# Altium footprint library Components.PcbLib: 13 footprints
Each footprint in its own frame and in the unit in brackets; x right, y up, seen from the top. Pads: shape width x height; smd on the part's side, far side on the other; paste and mask are expansions set on the pad; w line width, h text height; cw(c..) or ccw(c..) is an arc to the next point about the centre after c.
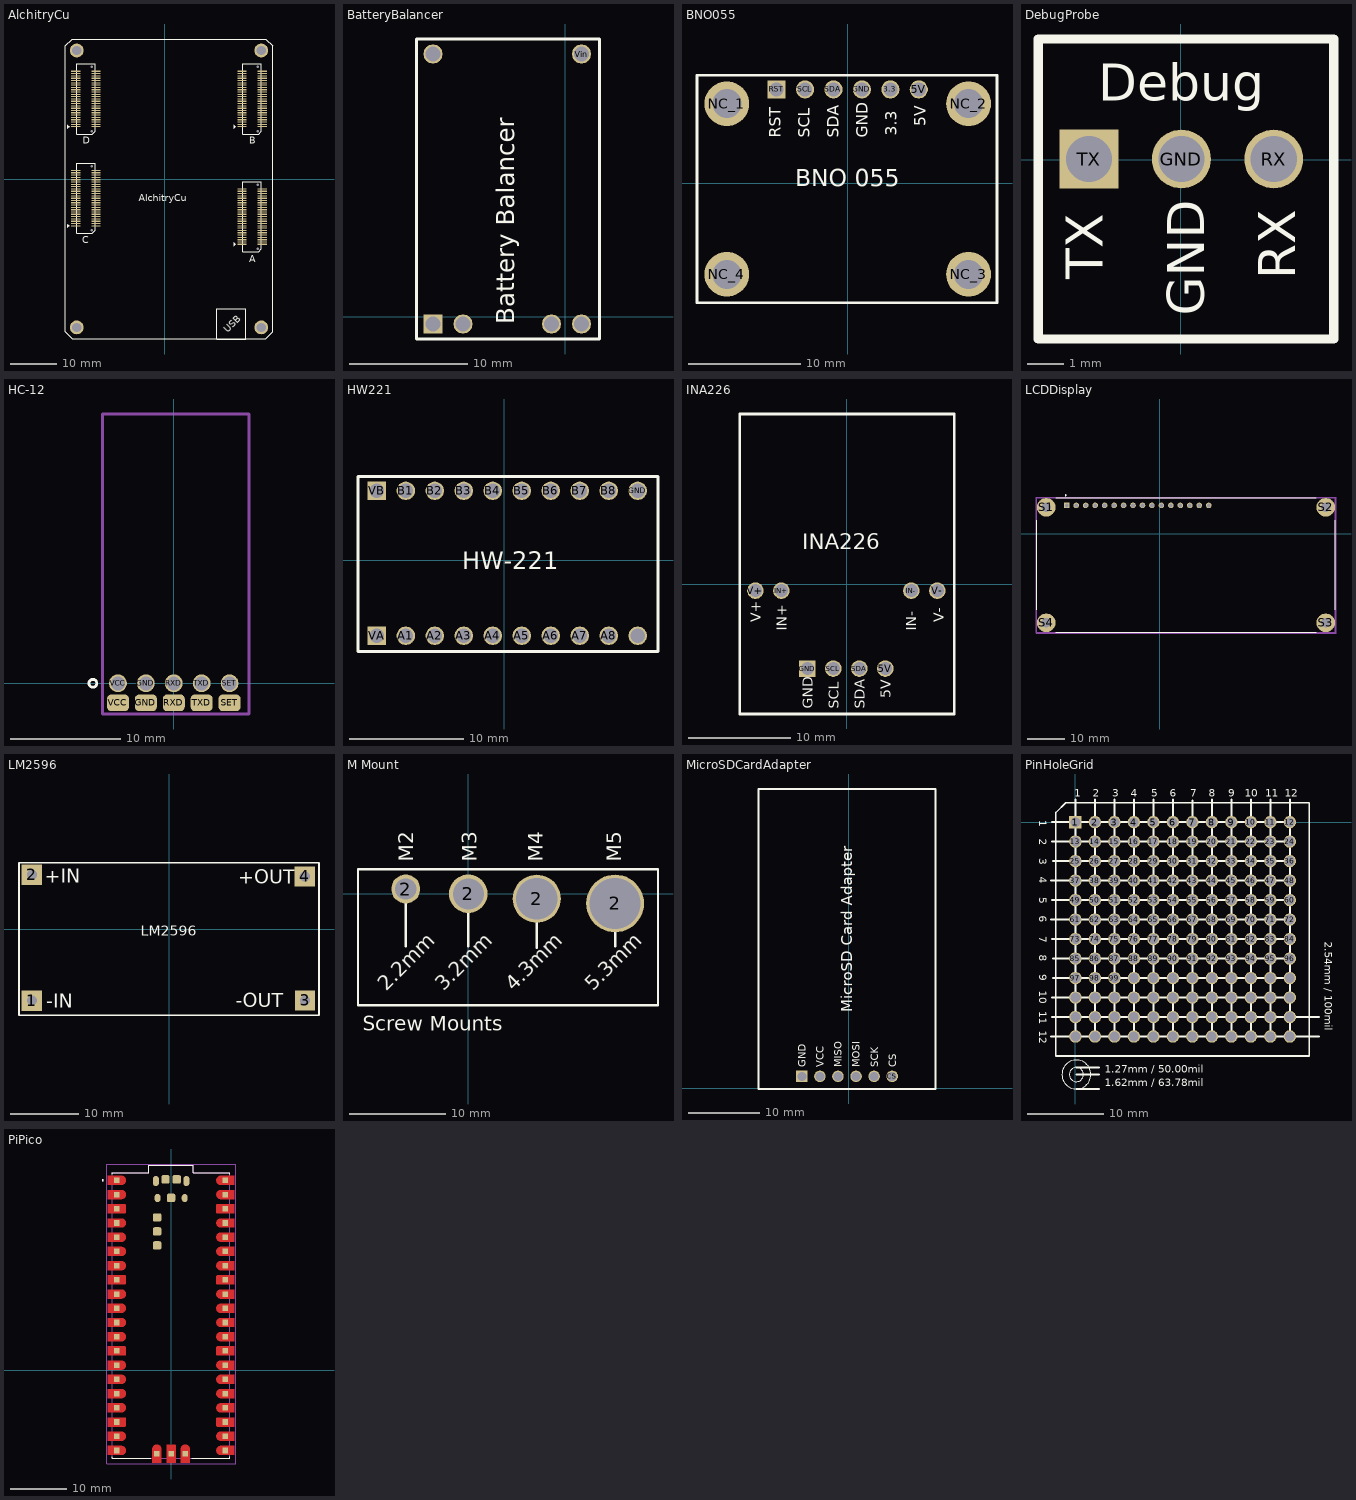
[diagram p0: the footprints below, top view; thin cyan lines are the x and y axes]

## AlchitryCu [mm]
pads (212):
  rect 2x0.25 smd: A1(16.73,-14.149) A2(16.73,-13.649) A3(16.73,-13.149) A4(16.73,-12.649) A5(16.73,-12.149) A6(16.73,-11.649) A7(16.73,-11.149) A8(16.73,-10.649) A9(16.73,-10.149) A10(16.73,-9.649) A11(16.73,-9.149) A12(16.73,-8.649) A13(16.73,-8.149) A14(16.73,-7.649) A15(16.73,-7.149) A16(16.73,-6.649) A17(16.73,-6.149) A18(16.73,-5.649) A19(16.73,-5.149) A20(16.73,-4.649) A21(16.73,-4.149) A22(16.73,-3.649) A23(16.73,-3.149) A24(16.73,-2.649) A25(16.73,-2.149) A26(21.13,-2.149) A27(21.13,-2.649) A28(21.13,-3.149) A29(21.13,-3.649) A30(21.13,-4.149) A31(21.13,-4.649) A32(21.13,-5.149) A33(21.13,-5.649) A34(21.13,-6.149) A35(21.13,-6.649) A36(21.13,-7.149) A37(21.13,-7.649) A38(21.13,-8.149) A39(21.13,-8.649) A40(21.13,-9.149) A41(21.13,-9.649) A42(21.13,-10.149) A43(21.13,-10.649) A44(21.13,-11.149) A45(21.13,-11.649) A46(21.13,-12.149) A47(21.13,-12.649) A48(21.13,-13.149) A49(21.13,-13.649) A50(21.13,-14.149) B1(16.73,11.351) B2(16.73,11.851) B3(16.73,12.351) B4(16.73,12.851) B5(16.73,13.351) B6(16.73,13.851) B7(16.73,14.351) B8(16.73,14.851) B9(16.73,15.351) B10(16.73,15.851) B11(16.73,16.351) B12(16.73,16.851) B13(16.73,17.351) B14(16.73,17.851) B15(16.73,18.351) B16(16.73,18.851) B17(16.73,19.351) B18(16.73,19.851) B19(16.73,20.351) B20(16.73,20.851) B21(16.73,21.351) B22(16.73,21.851) B23(16.73,22.351) B24(16.73,22.851) B25(16.73,23.351) B26(21.13,23.351) B27(21.13,22.851) B28(21.13,22.351) B29(21.13,21.851) B30(21.13,21.351) B31(21.13,20.851) B32(21.13,20.351) B33(21.13,19.851) B34(21.13,19.351) B35(21.13,18.851) B36(21.13,18.351) B37(21.13,17.851) B38(21.13,17.351) B39(21.13,16.851) B40(21.13,16.351) B41(21.13,15.851) B42(21.13,15.351) B43(21.13,14.851) B44(21.13,14.351) B45(21.13,13.851) B46(21.13,13.351) B47(21.13,12.851) B48(21.13,12.351) B49(21.13,11.851) B50(21.13,11.351) C1(-19.27,-10.149) C2(-19.27,-9.649) C3(-19.27,-9.149) C4(-19.27,-8.649) C5(-19.27,-8.149) C6(-19.27,-7.649) C7(-19.27,-7.149) C8(-19.27,-6.649) C9(-19.27,-6.149) C10(-19.27,-5.649) C11(-19.27,-5.149) C12(-19.27,-4.649) C13(-19.27,-4.149) C14(-19.27,-3.649) C15(-19.27,-3.149) C16(-19.27,-2.649) C17(-19.27,-2.149) C18(-19.27,-1.649) C19(-19.27,-1.149) C20(-19.27,-0.649) C21(-19.27,-0.149) C22(-19.27,0.351) C23(-19.27,0.851) C24(-19.27,1.351) C25(-19.27,1.851) C26(-14.87,1.851) C27(-14.87,1.351) C28(-14.87,0.851) C29(-14.87,0.351) C30(-14.87,-0.149) C31(-14.87,-0.649) C32(-14.87,-1.149) C33(-14.87,-1.649) C34(-14.87,-2.149) C35(-14.87,-2.649) C36(-14.87,-3.149) C37(-14.87,-3.649) C38(-14.87,-4.149) C39(-14.87,-4.649) C40(-14.87,-5.149) C41(-14.87,-5.649) C42(-14.87,-6.149) C43(-14.87,-6.649) C44(-14.87,-7.149) C45(-14.87,-7.649) C46(-14.87,-8.149) C47(-14.87,-8.649) C48(-14.87,-9.149) C49(-14.87,-9.649) C50(-14.87,-10.149) D1(-19.27,11.351) D2(-19.27,11.851) D3(-19.27,12.351) D4(-19.27,12.851) D5(-19.27,13.351) D6(-19.27,13.851) D7(-19.27,14.351) D8(-19.27,14.851) D9(-19.27,15.351) D10(-19.27,15.851) D11(-19.27,16.351) D12(-19.27,16.851) D13(-19.27,17.351) D14(-19.27,17.851) D15(-19.27,18.351) D16(-19.27,18.851) D17(-19.27,19.351) D18(-19.27,19.851) D19(-19.27,20.351) D20(-19.27,20.851) D21(-19.27,21.351) D22(-19.27,21.851) D23(-19.27,22.351) D24(-19.27,22.851) D25(-19.27,23.351) D26(-14.87,23.351) D27(-14.87,22.851) D28(-14.87,22.351) D29(-14.87,21.851) D30(-14.87,21.351) D31(-14.87,20.851) D32(-14.87,20.351) D33(-14.87,19.851) D34(-14.87,19.351) D35(-14.87,18.851) D36(-14.87,18.351) D37(-14.87,17.851) D38(-14.87,17.351) D39(-14.87,16.851) D40(-14.87,16.351) D41(-14.87,15.851) D42(-14.87,15.351) D43(-14.87,14.851) D44(-14.87,14.351) D45(-14.87,13.851) D46(-14.87,13.351) D47(-14.87,12.851) D48(-14.87,12.351) D49(-14.87,11.851) D50(-14.87,11.351)
  round 0 hole 0.55: NC(-15.82,-11.099) NC(-15.82,2.801) NC(-15.82,10.401) NC(-15.82,24.301) NC(20.18,-15.099) NC(20.18,-1.199) NC(20.18,10.401) NC(20.18,24.301)
  round 3 hole 2: NC_0(-19.07,27.851) NC_1(20.93,27.851) NC_2(-19.07,-32.149) NC_3(20.93,-32.149)
Top Overlay:
  region: -20.57,11.351 -21.07,11.751 -21.07,10.951
  region: 15.43,11.351 14.93,11.751 14.93,10.951
  region: -20.57,-10.149 -21.07,-9.749 -21.07,-10.549
  region: 15.43,-14.149 14.93,-13.749 14.93,-14.549
  lines w0.152: -19.07,-11.749 -19.07,3.451 -15.07,3.451 -15.07,-11.149 -15.67,-11.749 -19.07,-11.749 ; -19.07,9.751 -19.07,24.951 -15.07,24.951 -15.07,10.351 -15.67,9.751 -19.07,9.751 ; 16.93,-15.749 16.93,-0.549 20.93,-0.549 20.93,-15.149 20.33,-15.749 16.93,-15.749 ; 16.93,9.751 16.93,24.951 20.93,24.951 20.93,10.351 20.33,9.751 16.93,9.751
  lines w0.254: -21.57,-33.149 -21.57,28.851 -20.07,30.351 0.93,30.351 21.93,30.351 23.43,28.851 23.43,-33.149 21.93,-34.649 0.93,-34.649 -20.07,-34.649 -21.57,-33.149 ; 11.303,-34.671 17.526,-34.671 17.526,-28.067 11.303,-28.067 11.303,-34.671
  text "USB" at 13.716,-33.423 h1.52
  text "C" at -17.907,-13.97 h1.52
  text "D" at -17.78,7.62 h1.52
  text "B" at 18.288,7.62 h1.52
  text "A" at 18.288,-18.034 h1.52
  text "AlchitryCu" at -5.588,-4.826 h1.52
3D body: height 10, standoff 0, extent -21.717,-34.798 23.495,30.353

## BatteryBalancer [mm]
pads (6):
  round 1.62 hole 1.27: "Bat +"(-1.143,-0.635) "Bat -"(-8.636,-0.635) "GND In"(-11.176,22.225) Vin(1.397,22.225) Vout+(1.397,-0.635)
  rect 1.62x1.62 hole 1.27: "Vout -"(-11.176,-0.635)
Top Overlay:
  lines w0.254: -12.573,-1.905 2.921,-1.905 2.921,23.495 -12.573,23.495 -12.573,-1.905
  text "Battery Balancer" at -4.318,-0.635 h1.52
3D body: height 4, standoff 0, extent -12.597,-1.905 2.921,23.495

## BNO055 [mm]
pads (10):
  round 1.62 hole 1.27: 3.3(3.81,8.382) 5V(6.35,8.382) GND(1.27,8.382) SCL(-3.81,8.382) SDA(-1.27,8.382)
  round 4 hole 2.6: NC_1(-10.795,7.112) NC_2(10.795,7.112) NC_3(10.795,-8.128) NC_4(-10.795,-8.128)
  rect 1.62x1.62 hole 1.27: RST(-6.35,8.382)
Top Overlay:
  lines w0.254: -13.462,-10.668 13.335,-10.668 13.335,9.652 -13.462,9.652 -13.462,-10.668
  text "BNO 055" at -4.699,-0.254 h1.52
  text "RST" at -5.969,4.064 h1.02
  text "3.3" at 4.394,4.233 h1.02
  text "5V" at 6.985,5.08 h1.02
  text "SDA" at -0.787,4.064 h1.02
  text "GND" at 1.803,4.064 h1.02
  text "SCL" at -3.378,4.064 h1.02
3D body "Adafruit_BNO055_AP203.STEP": height 4.15, standoff -0.05, extent -13.335,-10.795 13.335,9.525

## DebugProbe [mm]
pads (3):
  round 1.62 hole 1.27: GND(0.02,0.027) RX(2.56,0.027)
  rect 1.62x1.62 hole 1.27: TX(-2.52,0.027)
Top Overlay:
  lines w0.254: -3.917,-4.926 4.211,-4.926 4.211,3.329 -3.917,3.329 -3.917,-4.926
  text "Debug" at -2.266,1.636 h1.02
  text "TX" at -2.138,-3.275 h1.02
  text "RX" at 3.153,-3.275 h1.02
  text "GND" at 0.655,-4.291 h1.02

## HC-12 [mm]
pads (10):
  rrect50% 2x1.5 smd paste-1 mask+0: GND(-2.54,-1.778) RXD(0,-1.778) SET(5.08,-1.778) TXD(2.54,-1.778) VCC(-5.08,-1.778)
  round 1.62 hole 1.27: GND(-2.54,0) RXD(0,0) SET(5.08,0) TXD(2.54,0) VCC(-5.08,0)
Top Overlay:
  circle w0.254: c-7.366,0 r0.359
Mechanical 1:
  lines w0.254: -6.477,-2.794 6.858,-2.794 6.858,24.511 -6.477,24.511 -6.477,-2.794
3D body: height 5, standoff 0, extent -6.477,-2.794 6.858,24.511

## HW221 [mm]
pads (20):
  round 1.62 hole 1.27: A1(-8.636,-6.604) A2(-6.096,-6.604) A3(-3.556,-6.604) A4(-1.016,-6.604) A5(1.524,-6.604) A6(4.064,-6.604) A7(6.604,-6.604) A8(9.144,-6.604) B1(-8.636,6.096) B2(-6.096,6.096) B3(-3.556,6.096) B4(-1.016,6.096) B5(1.524,6.096) B6(4.064,6.096) B7(6.604,6.096) B8(9.144,6.096) ENABLE(11.684,-6.604) GND(11.684,6.096)
  rect 1.62x1.62 hole 1.27: VA(-11.176,-6.604) VB(-11.176,6.096)
Top Overlay:
  lines w0.254: -12.827,-8.001 13.462,-8.001 13.462,7.366 -12.827,7.366 -12.827,-8.001
  text "HW-221" at -3.683,-0.762 h1.52
3D body: height 4, standoff 0, extent -12.827,-8.001 13.462,7.366

## INA226 [mm]
pads (8):
  round 1.62 hole 1.27: 5V(3.754,-8.257) IN+(-6.406,-0.637) IN-(6.294,-0.637) SCL(-1.326,-8.257) SDA(1.214,-8.257) V+(-8.946,-0.637) V-(8.834,-0.637)
  rect 1.62x1.62 hole 1.27: GND(-3.866,-8.257)
Top Overlay:
  lines w0.254: -10.47,-12.702 10.485,-12.702 10.485,16.635 -10.47,16.635 -10.47,-12.702
  text "GND" at -3.358,-12.194 h1.02
  text "SCL" at -0.818,-12.194 h1.02
  text "SDA" at 1.722,-12.194 h1.02
  text "5V" at 4.262,-11.179 h1.02
  text "V+" at -8.438,-3.728 h1.02
  text "IN+" at -5.898,-4.574 h1.02
  text "IN-" at 6.802,-4.574 h1.02
  text "V-" at 9.469,-3.728 h1.02
  text "INA226" at -4.374,3.427 h1.52
3D body: height 6, standoff 0, extent -10.56,-12.7 10.541,16.645

## LCDDisplay [mm]
pads (20):
  rect 1.508x1.508 hole 1: 1(-25.015,7.618)
  round 1.508 hole 1: 2(-22.475,7.618) 3(-19.935,7.618) 4(-17.395,7.618) 5(-14.855,7.618) 6(-12.315,7.618) 7(-9.775,7.618) 8(-7.235,7.618) 9(-4.695,7.618) 10(-2.155,7.618) 11(0.385,7.618) 12(2.925,7.618) 13(5.465,7.618) 14(8.005,7.618) 15(10.545,7.618) 16(13.085,7.618)
  round 5 hole 2.5: S1(-30.515,7.118) S2(44.485,7.118) S3(44.485,-23.882) S4(-30.515,-23.882)
Top Overlay:
  circle w0.2: c-25.315,10.318 r0.1
  lines w0.127: -33.015,-20.382 -33.015,3.618 ; -28.015,-26.382 41.985,-26.382 ; -28.015,9.618 41.985,9.618 ; 46.985,-20.382 46.985,3.618
Mechanical 13:
  circle w0.2: c-25.315,10.318 r0.1
  lines w0.127: -33.015,-26.382 -33.015,9.618 46.985,9.618 46.985,-26.382 -33.015,-26.382
Mechanical 15:
  lines w0.05: -33.265,-26.632 47.235,-26.632 47.235,9.868 -33.265,9.868 -33.265,-26.632
3D body "LCD 2X16--3DModel-STEP-269445.STEP": height 11, standoff 1, extent -33.015,-26.128 46.985,9.872

## LM2596 [mm]
pads (4):
  rect 3x3 hole 1.5 paste-2539.97 mask+0.102: 1(-20.193,-10.541) 2(-20.193,8.001) 3(20.044,-10.519) 4(20,7.751)
Top Overlay:
  lines w0.254: -22.098,-12.7 22.098,-12.7 22.098,9.779 -22.098,9.779 -22.098,-12.7
  text "LM2596" at -4.191,-1.016 h1.52
  text "+OUT" at 10.236,6.68 h2.03
  text "-OUT" at 9.855,-11.481 h2.03
  text "+IN" at -18.339,6.807 h2.03
  text "-IN" at -18.085,-11.608 h2.03
Mechanical 15:
  lines w0.003: -3.196,-0.889 -3.196,-0.889
3D body: height 15, standoff 0, extent -22.225,-12.7 22.098,9.779

## M Mount [mm]
pads (4):
  round 3 hole 2.2: 2(-6.477,0.484)
  round 4 hole 3.2: 2(0.014,-0.016)
  round 5 hole 4.3: 2(7.112,-0.516)
  round 6 hole 5.3: 2(15.24,-1.016)
Top Overlay:
  lines w0.254: -6.477,-5.461 -6.477,0.484 ; 0.014,-5.447 0.014,-0.016 ; 7.112,-5.588 7.112,-0.516 ; 15.24,-5.461 15.24,-1.016 ; -11.43,-11.557 19.685,-11.557 19.685,2.54 -11.43,2.54 -11.43,-11.557
  text "5.3mm" at 12.954,-10.182 h1.52
  text "4.3mm" at 4.699,-10.182 h1.52
  text "3.2mm" at -2.54,-10.182 h1.52
  text "M2" at -5.715,3.302 h1.52
  text "2.2mm" at -8.509,-10.182 h1.52
  text "Screw Mounts" at -10.922,-14.224 h1.52
  text "M5" at 15.861,3.302 h1.52
  text "M4" at 7.747,3.302 h1.52
  text "M3" at 0.889,3.302 h1.52

## MicroSDCardAdapter [mm]
pads (6):
  round 1.62 hole 1.27: CS(6.096,1.651) MISO(-1.524,1.651) MOSI(1.016,1.651) SCK(3.556,1.651) VCC(-4.064,1.651)
  rect 1.62x1.62 hole 1.27: GND(-6.604,1.651)
Top Overlay:
  lines w0.254: -12.7,-0.127 12.192,-0.127 12.192,42.037 -12.7,42.037 -12.7,-0.127
  text "CS" at 6.646,2.921 h1.02
  text "SCK" at 4.106,2.921 h1.02
  text "MOSI" at 1.566,2.921 h1.02
  text "MISO" at -0.974,2.921 h1.02
  text "VCC" at -3.514,2.921 h1.02
  text "GND" at -6.054,2.921 h1.02
  text "MicroSD Card Adapter" at 0.508,10.668 h1.52
3D body: height 3, standoff 0, extent -12.7,-0.254 12.192,42.037

## PinHoleGrid [mm]
pads (144):
  rect 1.62x1.62 hole 1.27: 1(0,0)
  round 1.62 hole 1.27: 2(2.54,0) 3(5.08,0) 4(7.62,0) 5(10.16,0) 6(12.7,0) 7(15.24,0) 8(17.78,0) 9(20.32,0) 10(22.86,0) 11(25.4,0) 12(27.94,0) 13(0,-2.54) 14(2.54,-2.54) 15(5.08,-2.54) 16(7.62,-2.54) 17(10.16,-2.54) 18(12.7,-2.54) 19(15.24,-2.54) 20(17.78,-2.54) 21(20.32,-2.54) 22(22.86,-2.54) 23(25.4,-2.54) 24(27.94,-2.54) 25(0,-5.08) 26(2.54,-5.08) 27(5.08,-5.08) 28(7.62,-5.08) 29(10.16,-5.08) 30(12.7,-5.08) 31(15.24,-5.08) 32(17.78,-5.08) 33(20.32,-5.08) 34(22.86,-5.08) 35(25.4,-5.08) 36(27.94,-5.08) 37(0,-7.62) 38(2.54,-7.62) 39(5.08,-7.62) 40(7.62,-7.62) 41(10.16,-7.62) 42(12.7,-7.62) 43(15.24,-7.62) 44(17.78,-7.62) 45(20.32,-7.62) 46(22.86,-7.62) 47(25.4,-7.62) 48(27.94,-7.62) 49(0,-10.16) 50(2.54,-10.16) 51(5.08,-10.16) 52(7.62,-10.16) 53(10.16,-10.16) 54(12.7,-10.16) 55(15.24,-10.16) 56(17.78,-10.16) 57(20.32,-10.16) 58(22.86,-10.16) 59(25.4,-10.16) 60(27.94,-10.16) 61(0,-12.7) 62(2.54,-12.7) 63(5.08,-12.7) 64(7.62,-12.7) 65(10.16,-12.7) 66(12.7,-12.7) 67(15.24,-12.7) 68(17.78,-12.7) 69(20.32,-12.7) 70(22.86,-12.7) 71(25.4,-12.7) 72(27.94,-12.7) 73(0,-15.24) 74(2.54,-15.24) 75(5.08,-15.24) 76(7.62,-15.24) 77(10.16,-15.24) 78(12.7,-15.24) 79(15.24,-15.24) 80(17.78,-15.24) 81(20.32,-15.24) 82(22.86,-15.24) 83(25.4,-15.24) 84(27.94,-15.24) 85(0,-17.78) 86(2.54,-17.78) 87(5.08,-17.78) 88(7.62,-17.78) 89(10.16,-17.78) 90(12.7,-17.78) 91(15.24,-17.78) 92(17.78,-17.78) 93(20.32,-17.78) 94(22.86,-17.78) 95(25.4,-17.78) 96(27.94,-17.78) 97(0,-20.32) 98(2.54,-20.32) 99(5.08,-20.32) 100(7.62,-20.32) 101(10.16,-20.32) 102(12.7,-20.32) 103(15.24,-20.32) 104(17.78,-20.32) 105(20.32,-20.32) 106(22.86,-20.32) 107(25.4,-20.32) 108(27.94,-20.32) 109(0,-22.86) 110(2.54,-22.86) 111(5.08,-22.86) 112(7.62,-22.86) 113(10.16,-22.86) 114(12.7,-22.86) 115(15.24,-22.86) 116(17.78,-22.86) 117(20.32,-22.86) 118(22.86,-22.86) 119(25.4,-22.86) 120(27.94,-22.86) 121(0,-25.4) 122(2.54,-25.4) 123(5.08,-25.4) 124(7.62,-25.4) 125(10.16,-25.4) 126(12.7,-25.4) 127(15.24,-25.4) 128(17.78,-25.4) 129(20.32,-25.4) 130(22.86,-25.4) 131(25.4,-25.4) 132(27.94,-25.4) 133(0,-27.94) 134(2.54,-27.94) 135(5.08,-27.94) 136(7.62,-27.94) 137(10.16,-27.94) 138(12.7,-27.94) 139(15.24,-27.94) 140(17.78,-27.94) 141(20.32,-27.94) 142(22.86,-27.94) 143(25.4,-27.94) 144(27.94,-27.94)
Top Overlay:
  circle w0.152: c0.127,-32.893 r1.888
  circle w0.152: c0.127,-32.893 r0.925
  lines w0.2: -2.54,-30.48 -2.54,1.27 -1.27,2.54 30.48,2.54 30.48,-30.48 -2.54,-30.48
  lines w0.254: -3.175,-27.94 0,-27.94 ; -3.175,-12.7 0,-12.7 27.94,-12.7 ; -3.175,-7.62 0,-7.62 27.94,-7.62 ; -3.048,-25.4 0,-25.4 27.94,-25.4 31.75,-25.4 ; -3.048,-22.86 0,-22.86 27.94,-22.86 ; -3.048,-15.24 0,-15.24 27.94,-15.24 ; -3.048,-10.16 0,-10.16 27.94,-10.16 ; -3.048,-2.54 0,-2.54 27.94,-2.54 ; -3.048,0 0,0 ; -2.921,-20.32 0,-20.32 27.94,-20.32 ; -2.921,-17.78 0,-17.78 27.94,-17.78 ; -2.921,-5.08 0,-5.08 27.94,-5.08 ; -0.381,-28.067 -0.127,-27.813 ; -0.254,-2.54 -0.127,-2.413 -0.254,-2.413 ; 0,2.921 0,0 ; 0.127,-34.781 3.048,-34.781 ; 0.127,-32.893 3.048,-32.893 ; 0.127,-31.968 3.048,-31.968 ; 2.54,-27.94 2.54,0 2.54,2.921 ; 5.08,-27.94 5.08,0 5.08,2.921 ; 7.62,-27.94 7.62,0 7.62,2.921 ; 10.16,-27.94 10.16,0 10.16,2.921 ; 12.7,-27.94 12.7,0 12.7,2.921 ; 15.24,-27.94 15.24,0 15.24,2.794 ; 17.78,-27.94 17.78,0 17.78,2.921 ; 20.32,-27.94 20.32,0 20.32,2.921 ; 22.86,-27.94 22.86,0 22.86,2.921 ; 25.4,-27.94 25.4,0 25.4,2.921 ; 27.94,2.921 27.94,0 ; 31.75,-27.94 27.94,-27.94 ; 0,-27.94 27.94,-27.94 ; 0,-27.94 0,0 ; 0,0 27.94,0 ; 27.94,-27.94 27.94,0
  text "1.62mm / 63.78mil" at 3.81,-34.417 h1.02
  text "1" at -0.127,3.302 h1.02
  text "2" at 2.286,3.302 h1.02
  text "3" at 4.826,3.302 h1.02
  text "4" at 7.239,3.302 h1.02
  text "5" at 9.906,3.302 h1.02
  text "6" at 12.319,3.302 h1.02
  text "7" at 14.986,3.302 h1.02
  text "8" at 17.399,3.302 h1.02
  text "9" at 19.939,3.302 h1.02
  text "10" at 22.098,3.302 h1.02
  text "11" at 24.765,3.302 h1.02
  text "12" at 27.305,3.302 h1.02
  text "1" at -4.699,0.254 h1.02
  text "2" at -4.699,-2.159 h1.02
  text "3" at -4.699,-4.699 h1.02
  text "4" at -4.699,-7.112 h1.02
  text "5" at -4.699,-9.779 h1.02
  text "6" at -4.699,-12.192 h1.02
  text "7" at -4.699,-14.859 h1.02
  text "8" at -4.699,-17.272 h1.02
  text "9" at -4.699,-19.812 h1.02
  text "10" at -4.699,-21.971 h1.02
  text "11" at -4.699,-24.638 h1.02
  text "12" at -4.699,-27.178 h1.02
  text "1.27mm / 50.00mil" at 3.81,-32.639 h1.02
  text "2.54mm / 100mil" at 32.512,-15.621 h1.02

## PiPico [mm]
pads (53):
  rect 1x1 smd paste-1 mask+0: 1(-9.69,33.909) 2(-9.69,31.369) 3(-9.69,28.829) 4(-9.69,26.289) 5(-9.69,23.749) 6(-9.69,21.209) 7(-9.69,18.669) 8(-9.69,16.129) 9(-9.69,13.589) 10(-9.69,11.049) 11(-9.69,8.509) 12(-9.69,5.969) 13(-9.69,3.429) 14(-9.69,0.889) 15(-9.69,-1.651) 16(-9.69,-4.191) 17(-9.69,-6.731) 18(-9.69,-9.271) 19(-9.69,-11.811) 20(-9.69,-14.351) 21(9.69,-14.351) 22(9.69,-11.811) 23(9.69,-9.271) 24(9.69,-6.731) 25(9.69,-4.191) 26(9.69,-1.651) 27(9.69,0.889) 28(9.69,3.429) 29(9.69,5.969) 30(9.69,8.509) 31(9.69,11.049) 32(9.69,13.589) 33(9.69,16.129) 34(9.69,18.669) 35(9.69,21.209) 36(9.69,23.749) 37(9.69,26.289) 38(9.69,28.829) 39(9.69,31.369) 40(9.69,33.909) D1(-2.54,-14.921) D2(0,-14.921) D3(2.54,-14.921)
  oval 1.1x1.8 smd: A(-2.725,33.779) B(2.725,33.779)
  oval 1.05x1.45 smd: C(-2.425,30.749) D(2.425,30.749)
  rrect40% 1.5x1.5 smd: TP1(0,30.779) TP2(1,34.079) TP3(-1,34.079) TP4(-2.5,27.279) TP5(-2.5,24.779) TP6(-2.5,22.279)
Top Layer:
  drawing of 43 lines, arcs and shapes, not listed
Top Overlay:
  circle w0.2: c-12.19,33.909 r0.1
  lines w0.127: -10.5,-15.471 -10.5,-15.721 -3.66,-15.721 ; -10.5,35.029 -10.5,35.279 -4,35.279 -4,36.579 4,36.579 4,35.279 10.5,35.279 10.5,35.029 ; 3.66,-15.721 10.5,-15.721 10.5,-15.471
Top Paste:
  drawing of 43 lines, arcs and shapes, not listed
Top Solder:
  drawing of 43 lines, arcs and shapes, not listed
Mechanical 13:
  circle w0.2: c-12.19,33.909 r0.1
  lines w0.127: -10.5,-15.721 10.5,-15.721 10.5,35.279 4,35.279 4,36.579 -4,36.579 -4,35.279 -10.5,35.279 -10.5,-15.721
Mechanical 15:
  lines w0.05: -11.54,-16.771 11.54,-16.771 11.54,36.829 -11.54,36.829 -11.54,-16.771
3D body "step_temp.STEP": height 3.73, standoff 0, extent -10.5,-15.721 10.5,36.579